# Altium footprint library hsbest.PcbLib: 389 footprints (part 3 of 25)
Each footprint in its own frame and in the unit in brackets; x right, y up, seen from the top. Pads: shape width x height; smd on the part's side, far side on the other; paste and mask are expansions set on the pad; w line width, h text height; cw(c..) or ccw(c..) is an arc to the next point about the centre after c.
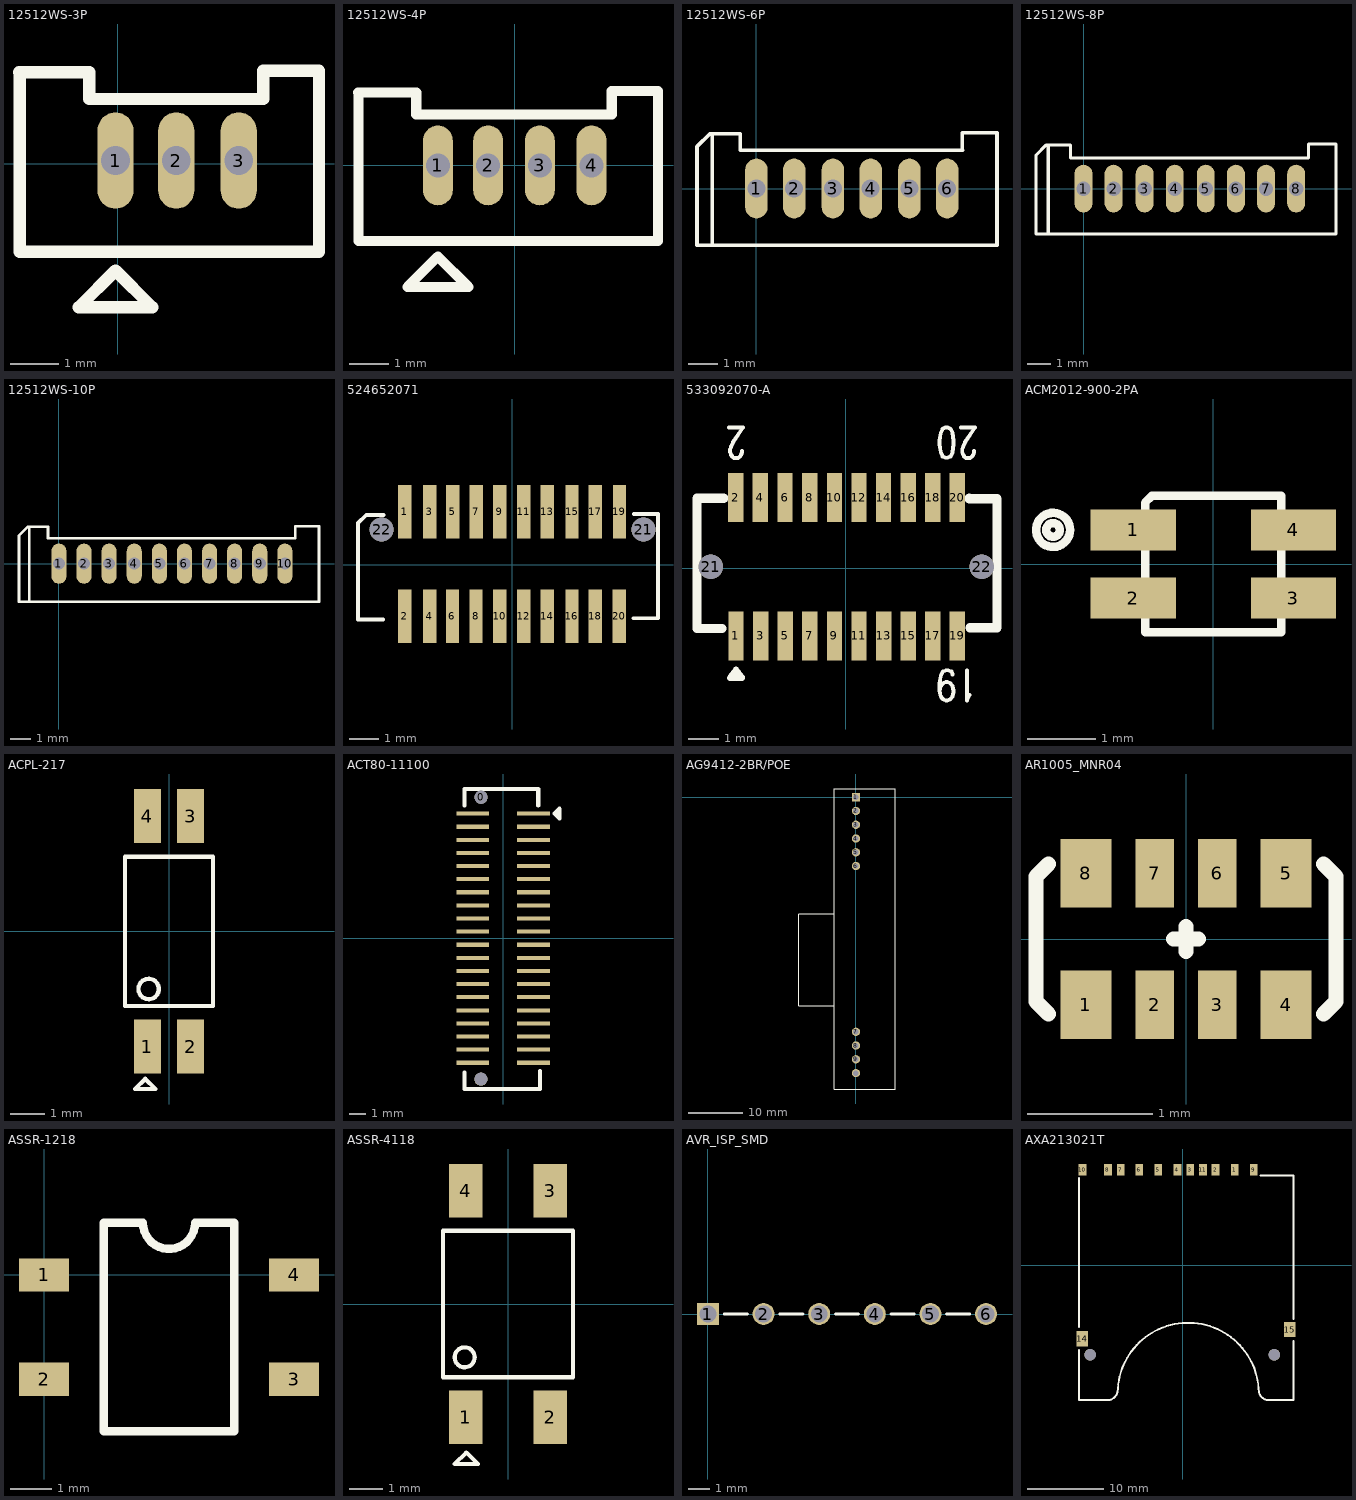
[diagram p2: the footprints below, top view; thin cyan lines are the x and y axes]

## 12512WS-3P [mm]
pads (3):
  oval 0.75x2 hole 0.6: 1(-0.043,0.064) 2(1.217,0.064) 3(2.515,0.064)
Top Overlay:
  lines w0.254: -2.048,1.895 -0.587,1.895 -0.587,1.341 3.024,1.341 3.024,1.929 4.183,1.929 4.183,-1.833 -2.031,-1.833 -2.031,1.878 ; -0.805,-2.984 0.719,-2.984 -0.043,-2.222 -0.805,-2.984

## 12512WS-4P [mm]
pads (4):
  oval 0.75x2 hole 0.6: 1(-1.928,0) 2(-0.668,0) 3(0.63,0) 4(1.928,0)
Top Overlay:
  lines w0.254: -3.933,1.832 -2.472,1.832 -2.472,1.277 2.437,1.277 2.437,1.865 3.596,1.865 3.596,-1.897 -3.916,-1.897 -3.916,1.815 ; -2.69,-3.048 -1.166,-3.048 -1.928,-2.286 -2.69,-3.048

## 12512WS-6P [mm]
pads (6):
  oval 0.75x2 hole 0.6: 1(0,0) 2(1.261,0) 3(2.559,0) 4(3.819,0) 5(5.117,0) 6(6.378,0)
Top Overlay:
  lines w0.127: -1.475,-1.897 -1.475,1.832 ; 1.831,-1.897 8.045,-1.897 8.045,1.865 6.886,1.865 6.886,1.277 ; 4.226,-1.897 -1.988,-1.897 -1.988,1.4 -1.556,1.832 -0.544,1.832 -0.544,1.277 6.893,1.277

## 12512WS-8P [mm]
pads (8):
  oval 0.75x2 hole 0.6: 1(0,0) 2(1.261,0) 3(2.559,0) 4(3.819,0) 5(5.117,0) 6(6.378,0) 7(7.639,0) 8(8.899,0)
Top Overlay:
  lines w0.127: -1.475,-1.897 -1.475,1.832 ; 1.831,-1.897 10.567,-1.897 10.567,1.865 9.408,1.865 9.408,1.277 -0.544,1.277 -0.544,1.832 -1.556,1.832 -1.988,1.4 -1.988,-1.897 4.226,-1.897

## 12512WS-10P [mm]
pads (10):
  oval 0.75x2 hole 0.6: 1(0,0) 2(1.25,0) 3(2.5,0) 4(3.75,0) 5(5,0) 6(6.25,0) 7(7.5,0) 8(8.75,0) 9(10,0) 10(11.25,0)
Top Overlay:
  lines w0.127: -1.475,-1.897 -1.475,1.832 ; 1.831,-1.897 12.95,-1.897 12.95,1.865 11.775,1.865 11.775,1.277 -0.544,1.277 -0.544,1.832 -1.556,1.832 -1.988,1.4 -1.988,-1.897 4.226,-1.897

## 524652071 [mm] "ST-male"
pads (22):
  rect 0.45x1.8 smd: 1(-3.601,1.776) 2(-3.603,-1.723) 3(-2.771,1.776) 4(-2.773,-1.723) 5(-2.001,1.776) 6(-2.003,-1.723) 7(-1.21,1.776) 8(-1.212,-1.723) 9(-0.42,1.776) 10(-0.421,-1.723) 11(0.391,1.776) 12(0.389,-1.723) 13(1.181,1.776) 14(1.179,-1.723) 15(2.011,1.776) 16(2.009,-1.723) 17(2.792,1.776) 18(2.79,-1.723) 19(3.605,1.776) 20(3.603,-1.723)
  round 0.8 on Top hole 0.8: 21(4.411,1.184) 22(-4.385,1.184)
Top Overlay:
  lines w0.127: -4.336,-1.838 -5.176,-1.838 -5.176,1.402 -4.902,1.677 -4.319,1.677 ; 4.079,-1.794 4.899,-1.794 4.899,1.701 4.085,1.701

## 533092070-A [mm] "RA-female"
pads (22):
  rect 0.5x1.6 smd: 1(-3.574,-2.199) 2(-3.582,2.301) 3(-2.768,-2.199) 4(-2.784,2.301) 5(-1.973,-2.199) 6(-1.977,2.301) 7(-1.171,-2.199) 8(-1.176,2.301) 9(-0.37,-2.199) 10(-0.37,2.301) 11(0.427,-2.199) 12(0.429,2.301) 13(1.229,-2.199) 14(1.227,2.301) 15(2.027,-2.199) 16(2.033,2.301) 17(2.831,-2.199) 18(2.831,2.301) 19(3.63,-2.199) 20(3.623,2.301)
  round 0.8 on Top hole 0.8: 21(-4.393,0.051) 22(4.422,0.051)
Top Overlay:
  lines w0.127: -3.799,4.582 -3.344,4.582 -3.667,4.112 -3.731,3.961 -3.762,3.87 -3.762,3.779 -3.731,3.688 -3.699,3.643 -3.635,3.582 -3.503,3.582 -3.439,3.643 -3.408,3.688 -3.376,3.779 -3.376,3.825 ; 3.474,-3.454 3.438,-3.363 3.333,-3.318 3.265,-3.318 3.156,-3.363 3.088,-3.499 3.051,-3.742 3.051,-3.984 ; 3.751,4.582 4.206,4.582 3.883,4.112 3.819,3.961 3.787,3.87 3.787,3.779 3.819,3.688 3.851,3.643 3.915,3.582 4.047,3.582 4.111,3.643 4.143,3.688 4.174,3.779 4.174,3.825 ; 3.938,-3.318 3.938,-4.303 3.992,-4.166 4.029,-4.121 ; 3.051,-3.984 3.088,-3.833 3.156,-3.742 3.265,-3.697 3.297,-3.697 3.402,-3.742 3.474,-3.833 3.506,-3.984 3.506,-4.03 3.474,-4.166 3.402,-4.257 3.297,-4.303 3.265,-4.303 3.156,-4.257 3.088,-4.166 3.051,-3.984 ; 3.051,4.022 3.051,4.158 3.088,4.401 3.151,4.537 3.247,4.582 3.31,4.582 3.411,4.537 3.474,4.401 3.506,4.158 3.506,4.022 3.474,3.779 3.411,3.643 3.31,3.597 3.247,3.597 3.151,3.643 3.088,3.779 3.051,4.022
  lines w0.2: -3.758,-3.551 -3.385,-3.551 ; -3.754,-3.546 -3.388,-3.546 ; -3.693,-3.465 -3.449,-3.465 ; -3.632,-3.384 -3.51,-3.384 ; -3.571,-3.302 -3.373,-3.567 -3.77,-3.567 -3.571,-3.302 ; -3.571,-3.302 -3.571,-3.302
  lines w0.3: -4.033,-1.96 -4.842,-1.96 -4.842,2.279 -3.975,2.279 ; 4.013,2.281 4.013,2.266 4.919,2.266 4.919,-1.933 4.04,-1.933

## ACM2012-900-2PA [mm]
pads (4):
  rect 1.25x0.6 smd: 1(-1.175,0.5) 2(-1.175,-0.5) 3(1.175,-0.5) 4(1.175,0.5)
Top Overlay:
  circle w0.125: c-2.35,0.5 r0.25
  circle w0.125: c-2.35,0.5 r0.1
  lines w0.125: -1,-1 1,-1 1,1 -0.9,1 -1,0.9 -1,-1

## ACPL-217 [mm]
pads (4):
  rect 0.8x1.6 smd: 1(-0.635,-3.4) 2(0.635,-3.4) 3(0.635,3.4) 4(-0.635,3.4)
Top Overlay:
  circle w0.125: c-0.6,-1.7 r0.3
  lines w0.125: -1.3,-2.2 -1.3,2.2 1.3,2.2 1.3,-2.2 -1.3,-2.2 ; -1,-4.65 -0.4,-4.65 -0.7,-4.35 -1,-4.65

## ACT80-11100 [mm]
pads (42):
  round 0.8 hole 0.8: 0(-1.342,8.6) 0/2(-1.35,-8.6)
  rect 2x0.25 smd: 1(1.85,7.6) 2(-1.85,7.6) 3(1.85,6.8) 4(-1.85,6.8) 5(1.85,6) 6(-1.85,6) 7(1.85,5.2) 8(-1.85,5.2) 9(1.85,4.4) 10(-1.85,4.4) 11(1.85,3.6) 12(-1.85,3.6) 13(1.85,2.8) 14(-1.85,2.8) 15(1.85,2) 16(-1.85,2) 17(1.85,1.2) 18(-1.85,1.2) 19(1.85,0.4) 20(-1.85,0.4) 21(1.85,-0.4) 22(-1.85,-0.4) 23(1.85,-1.2) 24(-1.85,-1.2) 25(1.85,-2) 26(-1.85,-2) 27(1.85,-2.8) 28(-1.85,-2.8) 29(1.85,-3.6) 30(-1.85,-3.6) 31(1.85,-4.4) 32(-1.85,-4.4) 33(1.85,-5.2) 34(-1.85,-5.2) 35(1.85,-6) 36(-1.85,-6) 37(1.85,-6.8) 38(-1.85,-6.8) 39(1.85,-7.6) 40(-1.85,-7.6)
Top Overlay:
  lines w0.254: -2.35,-8.2 -2.35,-8.7 -2.35,-9.2 2.25,-9.2 2.25,-8.7 2.25,-8.1 ; -2.35,8.1 -2.35,8.6 -2.35,9.1 2.15,9.1 2.15,8.6 2.15,8.1 ; 3.15,7.6 3.45,7.3 3.45,7.9 3.15,7.6

## AG9412-2BR/POE [mil]
pads (10):
  rect 60x60 hole 39.37: 1(0,0)
  rrect100% 60x60 hole 39.37: 2(0,-100) 3(0,-200.39) 4(0,-300.39) 5(0,-400) 6(0,-500) 7(0,-1702.76) 8(0,-1802.76) 9(0,-1902.76) 10(0,-2002.76)
Top Overlay:
  lines w7.87: -413.39,-850.88 -413.39,-1515.75 -157.48,-1515.75 ; -413.39,-846.46 -157.48,-846.46 ; -157.48,-1771.65 -157.48,-2118.11 ; -157.48,-594.98 -157.48,59.05 ; -157.48,-2118.11 -157.48,59.05 ; -157.48,-2118.11 283.46,-2118.11 283.46,59.05 -157.48,59.05

## AR1005_MNR04 [mm]
pads (8):
  rect 0.406x0.55 smd: 1(-0.8,-0.525) 4(0.8,-0.525) 5(0.8,0.525) 8(-0.8,0.525)
  rect 0.305x0.55 smd: 2(-0.25,-0.525) 3(0.25,-0.525) 6(0.25,0.525) 7(-0.25,0.525)
Top Overlay:
  lines w0.12: -1.1,-0.6 -1.2,-0.5 -1.2,0.5 -1.1,0.6 ; -0.1,0 0.1,0 ; 0,-0.1 0,0.1 ; 1.1,-0.6 1.2,-0.5 1.2,0.5 1.1,0.6

## ASSR-1218 [mm]
pads (4):
  rect 1.2x0.8 smd: 1(0,0) 2(0,-2.5) 3(6,-2.5) 4(6,0)
Top Overlay:
  lines w0.2: 1.435,-3.75 1.435,1.25 2.375,1.25 ccw(c3,1.25) 3.625,1.25 4.565,1.25 4.565,-3.75 1.435,-3.75

## ASSR-4118 [mm]
pads (4):
  rect 1x1.6 smd: 1(-1.27,-3.4) 2(1.27,-3.4) 3(1.27,3.4) 4(-1.27,3.4)
Top Overlay:
  circle w0.125: c-1.3,-1.6 r0.3
  lines w0.125: -1.95,-2.2 -1.95,2.2 1.95,2.2 1.95,-2.2 -1.95,-2.2 ; -1.6,-4.8 -0.9,-4.8 -1.25,-4.45 -1.6,-4.8

## AVR_ISP_SMD [mm]
pads (6):
  rect 1x1 hole 0.762: 1(0,0)
  round 1 hole 0.762: 2(2.54,0) 3(5.08,0) 4(7.62,0) 5(10.16,0) 6(12.7,0)
Top Overlay:
  lines w0.127: 0.74,0 1.8,0 ; 3.28,0 4.34,0 ; 5.82,0 6.88,0 ; 8.36,0 9.42,0 ; 10.9,0 11.96,0

## AXA213021T [mm]
pads (15):
  rect 1x1.5 smd: 1(6.813,12.527) 2(4.313,12.527) 3(1.013,12.527) 4(-0.687,12.527) 5(-3.187,12.527) 6(-5.687,12.527) 7(-8.117,12.527) 8(-9.817,12.527) 9(9.313,12.527) 10(-13.167,12.527) 11(2.663,12.527)
  round 1.5 hole 1.5: 1/1(-12.167,-11.773) 1/2(12.033,-11.773)
  rect 1.5x2 smd: 14(-13.167,-9.673) 15(14.033,-8.473)
Top Overlay:
  lines w0.254: -13.627,-11.15 -13.627,-17.703 -9.563,-17.703 ; -13.627,-8.125 -13.627,11.425 ; -9.562,-17.703 ccw(c-9.944,-16.306) -8.547,-16.686 ; -8.547,-16.69 cw(c0.724,-16.852) 9.995,-16.69 ; 9.995,-16.688 ccw(c11.392,-16.306) 11.012,-17.704 ; 10.2,11.761 14.567,11.761 14.567,-7.1 ; 11.011,-17.703 14.567,-17.703 14.567,-9.95